# Altium footprint library PCB_PLC.PcbLib: 27 footprints (part 2 of 2)
Each footprint in its own frame and in the unit in brackets; x right, y up, seen from the top. Pads: shape width x height; smd on the part's side, far side on the other; paste and mask are expansions set on the pad; w line width, h text height; cw(c..) or ccw(c..) is an arc to the next point about the centre after c.
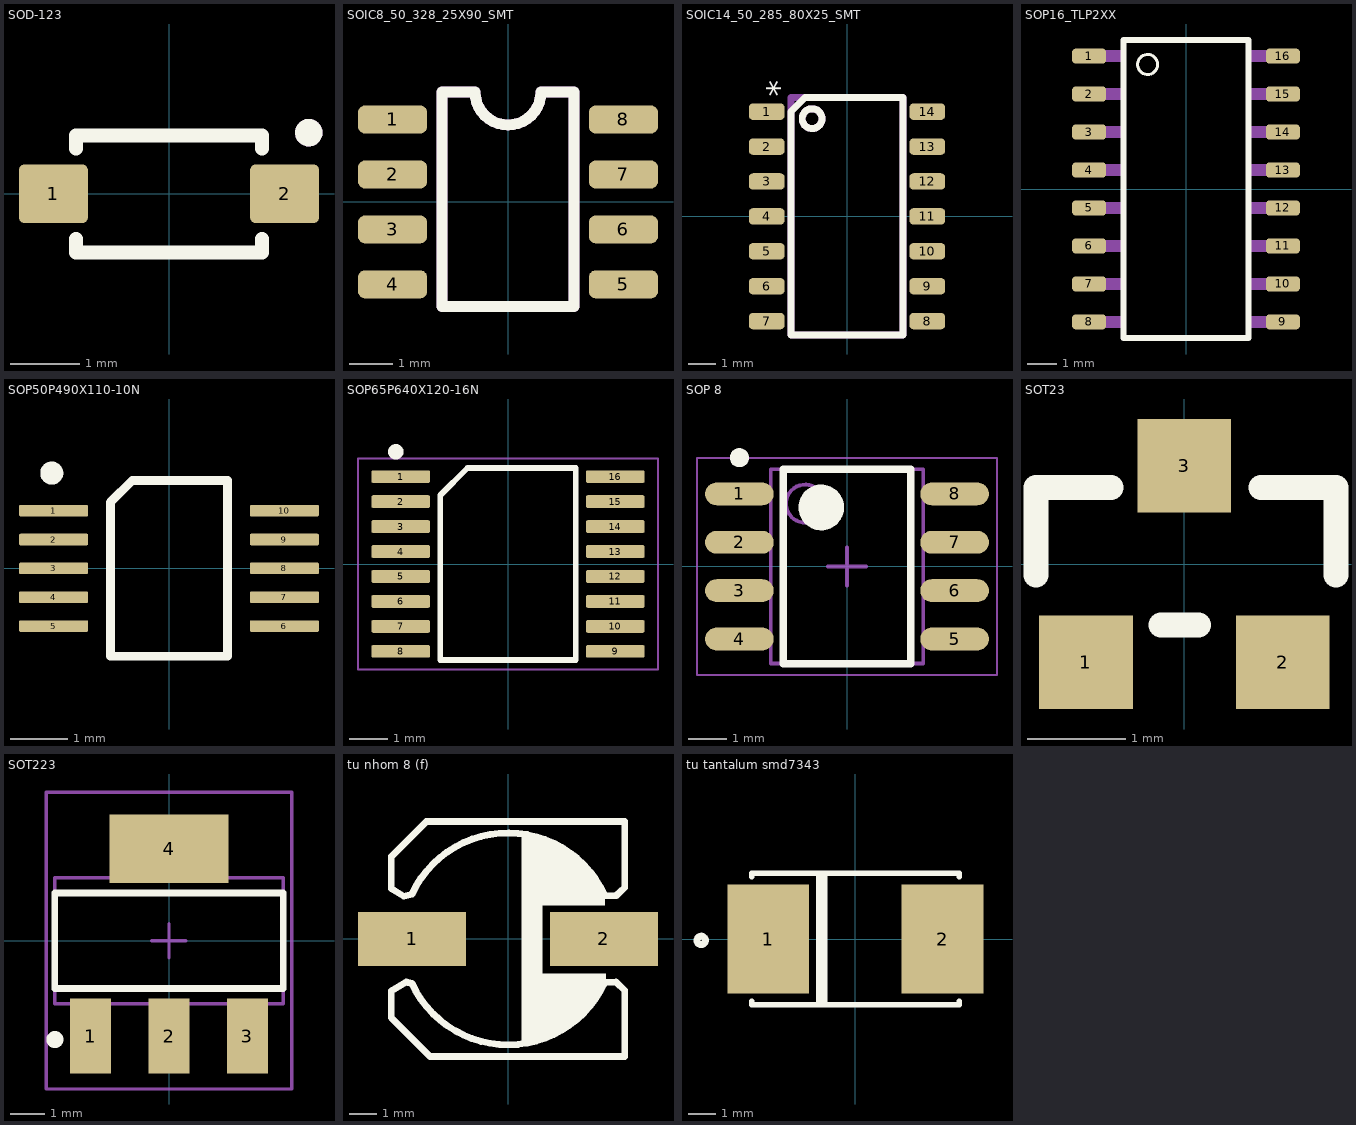
[diagram p1: the footprints below, top view; thin cyan lines are the x and y axes]

## SOD-123 [mm]
pads (2):
  rrect18% 1x0.85 smd: 1(-1.68,0) 2(1.68,0)
Top Overlay:
  circle w0.2: c2.032,0.889 r0.1
  lines w0.203: -1.35,-0.66 -1.35,-0.85 1.35,-0.85 1.35,-0.66 ; -1.35,0.66 -1.35,0.85 1.35,0.85 1.35,0.66
Mechanical 2:
  circle w0.2: c2.032,0.889 r0.1
  lines w0.127: -1.35,-0.639 -1.35,-0.85 1.35,-0.85 1.35,-0.639 ; -1.35,0.639 -1.35,0.85 1.35,0.85 1.35,0.639
  text "'.Designator'" at -2.54,1.356 h1.8
3D body "step_temp.STEP": height 1.44, standoff -0.01, extent -1.825,-0.775 1.825,0.775

## SOIC8_50_328_25X90_SMT [mm] "SOIC"
height 1.75
pads (8):
  rrect50% 1.6x0.65 smd mask+0.076: 1(-2.667,1.905) 2(-2.667,0.635) 3(-2.667,-0.635) 4(-2.667,-1.905) 5(2.667,-1.905) 6(2.667,-0.635) 7(2.667,0.635) 8(2.667,1.905)
Top Overlay:
  lines w0.254: -1.524,-2.413 1.524,-2.413 1.524,2.54 0.762,2.54 cw(c0,2.54) 0,1.778 cw(c0,2.54) -0.762,2.54 -1.524,2.54 -1.524,-2.413
Mechanical 2:
  lines w0.254: -1.524,-2.413 1.524,-2.413 1.524,2.54 0.762,2.54 cw(c0,2.54) 0,1.778 cw(c0,2.54) -0.762,2.54 -1.524,2.54 -1.524,-2.413
  text "'.Designator'" at -0.224,1.524 h1.02
3D body "User Library-SOIC-8.STEP": height 1.75, standoff 0, extent -3.006,-2.5 3.006,2.5

## SOIC14_50_285_80X25_SMT [mm] "SOIC, 14-Leads, Body 8.56x3.90mm, Pitch 1.27mm, IPC Medium Density"
height 2.65
pads (14):
  rrect50% 1.3x0.6 smd mask+0.076: 1(-2.921,3.81) 2(-2.921,2.54) 3(-2.921,1.27) 4(-2.921,0) 5(-2.921,-1.27) 6(-2.921,-2.54) 7(-2.921,-3.81) 8(2.921,-3.81) 9(2.921,-2.54) 10(2.921,-1.27) 11(2.921,0) 12(2.921,1.27) 13(2.921,2.54) 14(2.921,3.81)
Top Overlay:
  circle w0.254: c-1.27,3.556 r0.359
  lines w0.254: -2.032,-4.318 -2.032,3.81 -1.524,4.318 2.032,4.318 2.032,-4.318 -2.032,-4.318
  text "*" at -3.556,4.953 h1.5
Mechanical 2:
  circle w0.254: c-1.27,3.556 r0.359
  lines w0.254: -2.032,-4.318 -2.032,4.318 2.032,4.318 2.032,-4.318 -2.032,-4.318
  text "'.Designator'" at -0.168,2.54 h1.8
3D body "SW3dPS-so14p865x390ll600ls127h155.STEP": height 1.55, standoff 0, extent -3,-4.325 3,4.325

## SOP16_TLP2XX [mil]
pads (16):
  rrect50% 45x20 smd: 1(-127.56,175) 2(-127.56,125) 3(-127.56,75) 4(-127.56,25) 5(-127.56,-25) 6(-127.56,-75) 7(-127.56,-125) 8(-127.56,-175) 9(127.56,-175) 10(127.56,-125) 11(127.56,-75) 12(127.56,-25) 13(127.56,25) 14(127.56,75) 15(127.56,125) 16(127.56,175)
Top Overlay:
  circle w4: c-50.59,163.94 r13.19
  lines w8: -82.08,-196 -82.08,196 82.08,196 82.08,-196 -82.08,-196
Mechanical 13:
  region: 136.65,167.5 84.65,167.5 84.65,182.5 136.65,182.5
  region: 136.65,117.5 84.65,117.5 84.65,132.5 136.65,132.5
  region: 136.65,67.5 84.65,67.5 84.65,82.5 136.65,82.5
  region: 136.65,17.5 84.65,17.5 84.65,32.5 136.65,32.5
  region: 136.65,-32.5 84.65,-32.5 84.65,-17.5 136.65,-17.5
  region: 136.65,-82.5 84.65,-82.5 84.65,-67.5 136.65,-67.5
  region: 136.65,-132.5 84.65,-132.5 84.65,-117.5 136.65,-117.5
  region: 136.65,-182.5 84.65,-182.5 84.65,-167.5 136.65,-167.5
  region: -84.65,-182.5 -136.65,-182.5 -136.65,-167.5 -84.65,-167.5
  region: -84.65,-132.5 -136.65,-132.5 -136.65,-117.5 -84.65,-117.5
  region: -84.65,-82.5 -136.65,-82.5 -136.65,-67.5 -84.65,-67.5
  region: -84.65,-32.5 -136.65,-32.5 -136.65,-17.5 -84.65,-17.5
  region: -84.65,17.5 -136.65,17.5 -136.65,32.5 -84.65,32.5
  region: -84.65,67.5 -136.65,67.5 -136.65,82.5 -84.65,82.5
  region: -84.65,117.5 -136.65,117.5 -136.65,132.5 -84.65,132.5
  region: -84.65,167.5 -136.65,167.5 -136.65,182.5 -84.65,182.5
3D body "step_temp.STEP": height 82.68, standoff 0, extent -137.8,-202.76 137.8,202.76

## SOP50P490X110-10N [mm]
pads (10):
  rrect25% 1.2x0.2 smd: 1(-2,1) 2(-2,0.5) 3(-2,0) 4(-2,-0.5) 5(-2,-1) 6(2,-1) 7(2,-0.5) 8(2,0) 9(2,0.5) 10(2,1)
Top Overlay:
  circle w0.2: c-2.032,1.651 r0.1
  lines w0.152: -1.016,-1.524 1.016,-1.524 1.016,1.524 -0.635,1.524 -1.016,1.143 -1.016,-1.524
3D body "step_temp.STEP": height 1.1, standoff 0, extent -2.45,-1.5 2.45,1.5

## SOP65P640X120-16N [mil]
pads (16):
  rrect25% 60x13 smd: 1(-110,89.57) 2(-110,63.98) 3(-110,38.39) 4(-110,12.8) 5(-110,-12.8) 6(-110,-38.39) 7(-110,-63.98) 8(-110,-89.57) 9(110,-89.57) 10(110,-63.98) 11(110,-38.39) 12(110,-12.8) 13(110,12.8) 14(110,38.39) 15(110,63.98) 16(110,89.57)
Top Overlay:
  circle w7.87: c-115,115 r3.94
  lines w6: -69.49,-98.43 69.49,-98.43 69.49,98.43 -41.57,98.43 -69.49,70.51 -69.49,-98.43
Mechanical 15:
  lines w1.97: -153.74,-108.27 -153.74,108.27 153.74,108.27 153.74,-108.27 -153.74,-108.27
3D body "step_temp.STEP": height 47.24, standoff 0, extent -125.98,-98.43 125.98,98.43

## SOP 8 [mm] "SOIC, 8-Leads, Body 4.9x3.9mm, Pitch 1.27mm, IPC High Density"
pads (8):
  oval 1.8x0.6 smd: 1(-2.825,1.905) 2(-2.825,0.635) 3(-2.825,-0.635) 4(-2.825,-1.905) 5(2.825,-1.905) 6(2.825,-0.635) 7(2.825,0.635) 8(2.825,1.905)
Top Overlay:
  circle w0.25: c-2.825,2.855 r0.125
  circle w0.6: c-0.675,1.55 r0.3
  lines w0.2: -1.675,-2.55 -1.675,2.55 1.675,2.55 1.675,-2.55 -1.675,-2.55
Mechanical 13:
  circle w0.1: c-1.1,1.65 r0.5
  lines w0.1: -2,-2.55 -2,2.55 2,2.55 2,-2.55 -2,-2.55
Mechanical 15:
  lines w0.05: -3.937,-2.85 -3.937,2.85 3.937,2.85 3.937,-2.85 -3.937,-2.85
  lines w0.1: -0.5,0 0.5,0 ; 0,-0.5 0,0.5
3D body "CircuitWorks-SO-8 (PIC12FXXX).step": height 1.6, standoff 0, extent -2.995,-2.45 2.995,2.45

## SOT23 [mm] "SOT23"
height 1.1
pads (3):
  rect 0.95x0.95 smd: 1(-1,-1) 2(1,-1) 3(0,1)
Top Overlay:
  lines w0.254: -1.508,-0.111 -1.508,0.778 -0.746,0.778 ; -0.238,-0.619 0.143,-0.619 ; 0.778,0.778 1.54,0.778 1.54,-0.111
3D body "User Library-SOT-23-3.STEP": height 1.05, standoff 0.04, extent -1.484,-1.234 1.516,1.266

## SOT223 [mm]
pads (4):
  rect 1.2x2.2 smd: 1(-2.3,-2.8) 2(0,-2.8) 3(2.3,-2.8)
  rect 3.5x2 smd: 4(0,2.7)
Top Overlay:
  circle w0.25: c-3.35,-2.9 r0.125
  lines w0.2: -3.35,-1.4 -3.35,1.4 3.35,1.4 3.35,-1.4 -3.35,-1.4
Mechanical 13:
  lines w0.1: -3.35,-1.85 -3.35,1.85 3.35,1.85 3.35,-1.85 -3.35,-1.85
Mechanical 15:
  lines w0.1: -0.5,0 0.5,0 ; 0,-0.5 0,0.5 ; -3.6,-4.35 -3.6,4.35 3.6,4.35 3.6,-4.35 -3.6,-4.35
3D body "SW3DPS-SOT-223-DEFAULT.step": height 1.68, standoff 0, extent -3.25,-3.556 3.25,3.404

## tu nhom 8 (f) [mm]
pads (2):
  rect 4x2 smd: 1(-3.55,0) 2(3.55,0)
Top Overlay:
  region: 1.274,-1.291 3.615,-1.291 3.615,-1.682 3.052,-2.434 2.417,-3.069 1.528,-3.577 0.512,-3.958 0.512,3.789 1.655,3.535 2.544,3.027 3.581,1.73 3.581,1.249 1.274,1.249
  lines w0.1: 0.127,-3.937 ccw(c0.091,-0.093) 3.612,-1.636
  lines w0.254: -4.318,-2.921 -2.884,-4.355 4.318,-4.355 4.318,-1.905 3.992,-1.594 3.578,-1.604 cw(c0,0) -3.556,-1.651 -3.766,-1.599 -4.318,-1.931 -4.318,-2.921 ; -4.318,1.854 -3.855,1.576 -3.556,1.651 cw(c0,0) 3.578,1.604 3.998,1.594 4.318,1.899 4.318,4.343 2.039,4.343 -0.8,4.343 -3.023,4.343 -4.318,3.048 -4.318,1.854
3D body "aluminum capacitor 8mm.STEP": height 10.5, standoff 0, extent -4.852,-4.25 4.848,4.25

## tu tantalum smd7343 [mm]
pads (2):
  rect 3x4 smd: 1(-3.2,0) 2(3.2,0)
Top Overlay:
  circle w0.254: c-5.664,-0.051 r0.155
  region: -1.448,2.413 -1.448,-2.413 -1.041,-2.413 -1.041,2.413 -1.422,2.413
  lines w0.203: -3.81,-2.286 -3.81,-2.413 0,-2.413 3.81,-2.413 3.81,-2.286 ; -3.81,2.286 -3.81,2.413 0,2.413 3.81,2.413 3.81,2.286
3D body "CAP_TANT_7343-40.step": height 3.99, standoff -0.01, extent -3.8,-2.3 3.8,2.3